# Altium footprint library B04B-JWPF-SK-R.PcbLib: 1 footprints
Each footprint in its own frame and in the unit in brackets; x right, y up, seen from the top. Pads: shape width x height; smd on the part's side, far side on the other; paste and mask are expansions set on the pad; w line width, h text height; cw(c..) or ccw(c..) is an arc to the next point about the centre after c.
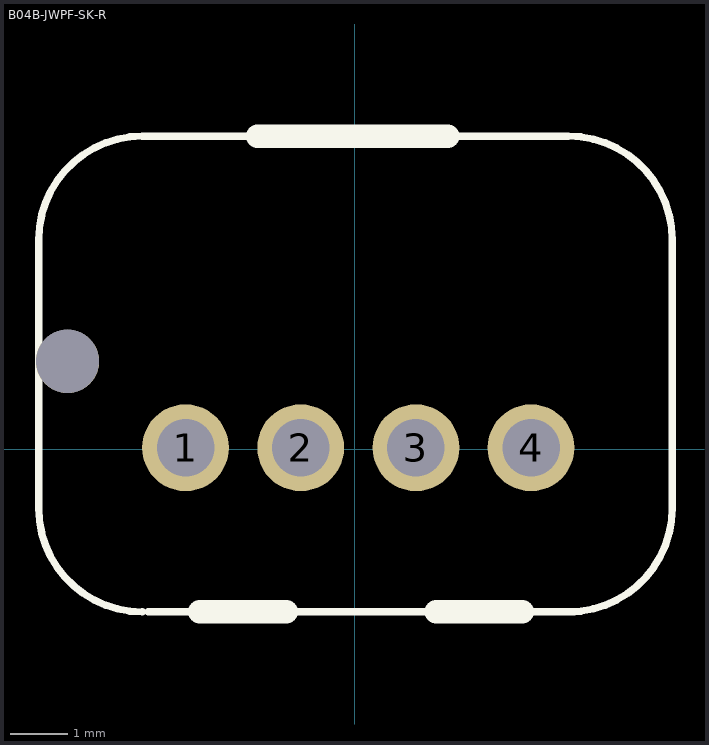
[diagram p0: the footprint, top view; thin cyan lines are the x and y axes]

## B04B-JWPF-SK-R [mm]
pads (5):
  round 1.508 hole 1: 1(-2.938,0.029) 2(-0.938,0.029) 3(1.062,0.029) 4(3.062,0.029)
  round 1.1 hole 1.1 unplated: ""(-4.988,1.529)
Top Overlay:
  lines w0.127: -5.488,-1.021 ccw(c-3.688,-1.021) -3.688,-2.821 ; -5.488,-1.016 -5.488,3.641 cw(c-3.688,3.641) -3.688,5.441 -1.688,5.441 ; -3.588,-2.821 -2.688,-2.821 ; -1.188,-2.821 1.412,-2.821 ; 1.612,5.441 3.712,5.441 cw(c3.712,3.641) 5.512,3.641 5.512,-1.016 ; 2.912,-2.821 3.712,-2.821 ; 3.812,-2.821 3.712,-2.821 ; 5.512,-1.021 cw(c3.712,-1.021) 3.712,-2.821
  lines w0.406: -2.688,-2.821 -1.188,-2.821 ; -1.688,5.441 1.612,5.441 ; 1.412,-2.821 2.912,-2.821
3D body "B04B-JWPF-SK-R-LF--SN---3DModel-STEP-56544.STEP": height 16.6, standoff -3.3, extent -5.445,-2.916 5.555,5.484